# EAGLE library part RN4020 (library Mine)
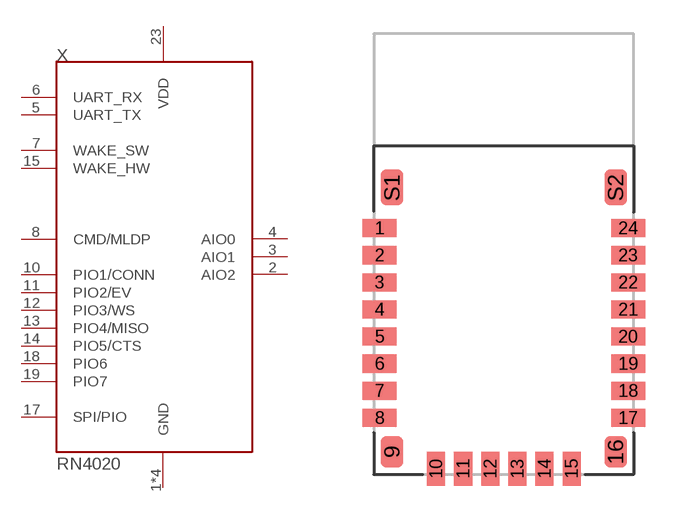
[diagram p73: symbol with the pads of RN4020; footprint RN4020]

Designator prefix X

## RN4020  [RN4020]
1  GND  sup
2  AIO2
3  AIO1
4  AIO0
5  UART_TX  out
6  UART_RX  in
7  WAKE_SW  in
8  CMD/MLDP  in
9  GND  sup
10  PIO1/CONN
11  PIO2/EV
12  PIO3/WS
13  PIO4/MISO
14  PIO5/CTS
15  WAKE_HW  in
16  GND  sup
17  SPI/PIO  in
18  PIO6
19  PIO7
23  VDD  sup
24  GND  sup

## Footprint RN4020 (pad centres in mm)
smd 1.5 x 0.8: 1 0.25,10.9; 2 0.25,9.7; 3 0.25,8.5; 4 0.25,7.3; 5 0.25,6.1; 6 0.25,4.9; 7 0.25,3.7; 8 0.25,2.5; 17 11.25,2.5; 18 11.25,3.7; 19 11.25,4.9; 20 11.25,6.1; 21 11.25,7.3; 22 11.25,8.5; 23 11.25,9.7; 24 11.25,10.9
smd 1 x 1.4: 9 0.8,1; 16 10.7,1
smd 0.8 x 1.5: 10 2.75,0.25; 11 3.95,0.25; 12 5.15,0.25; 13 6.35,0.25; 14 7.55,0.25; 15 8.75,0.25
smd 1 x 1.6: S1 0.8,12.7; S2 10.7,12.7